# Altium schematic symbol library CONN2x10x2.Schlib: 1 symbol
Pins are listed as number, name and electrical type; pins without a type are passive.

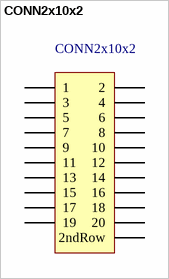
[diagram p0: symbol CONN2x10x2]

## CONN2x10x2
designator CONN2x10x2
Connector, 20-Pin, Dual row
signal-integrity model Connector
pins: 0 2ndRow, 1, 2, 3, 4, 5, 6, 7, 8, 9, 10, 11, 12, 13, 14, 15, 16, 17, 18, 19, 20
1 alternate drawing of the same symbol